# Altium footprint library Intercom Gen2 Main PCB.PcbLib: 115 footprints (part 3 of 8)
Each footprint in its own frame and in the unit in brackets; x right, y up, seen from the top. Pads: shape width x height; smd on the part's side, far side on the other; paste and mask are expansions set on the pad; w line width, h text height; cw(c..) or ccw(c..) is an arc to the next point about the centre after c.
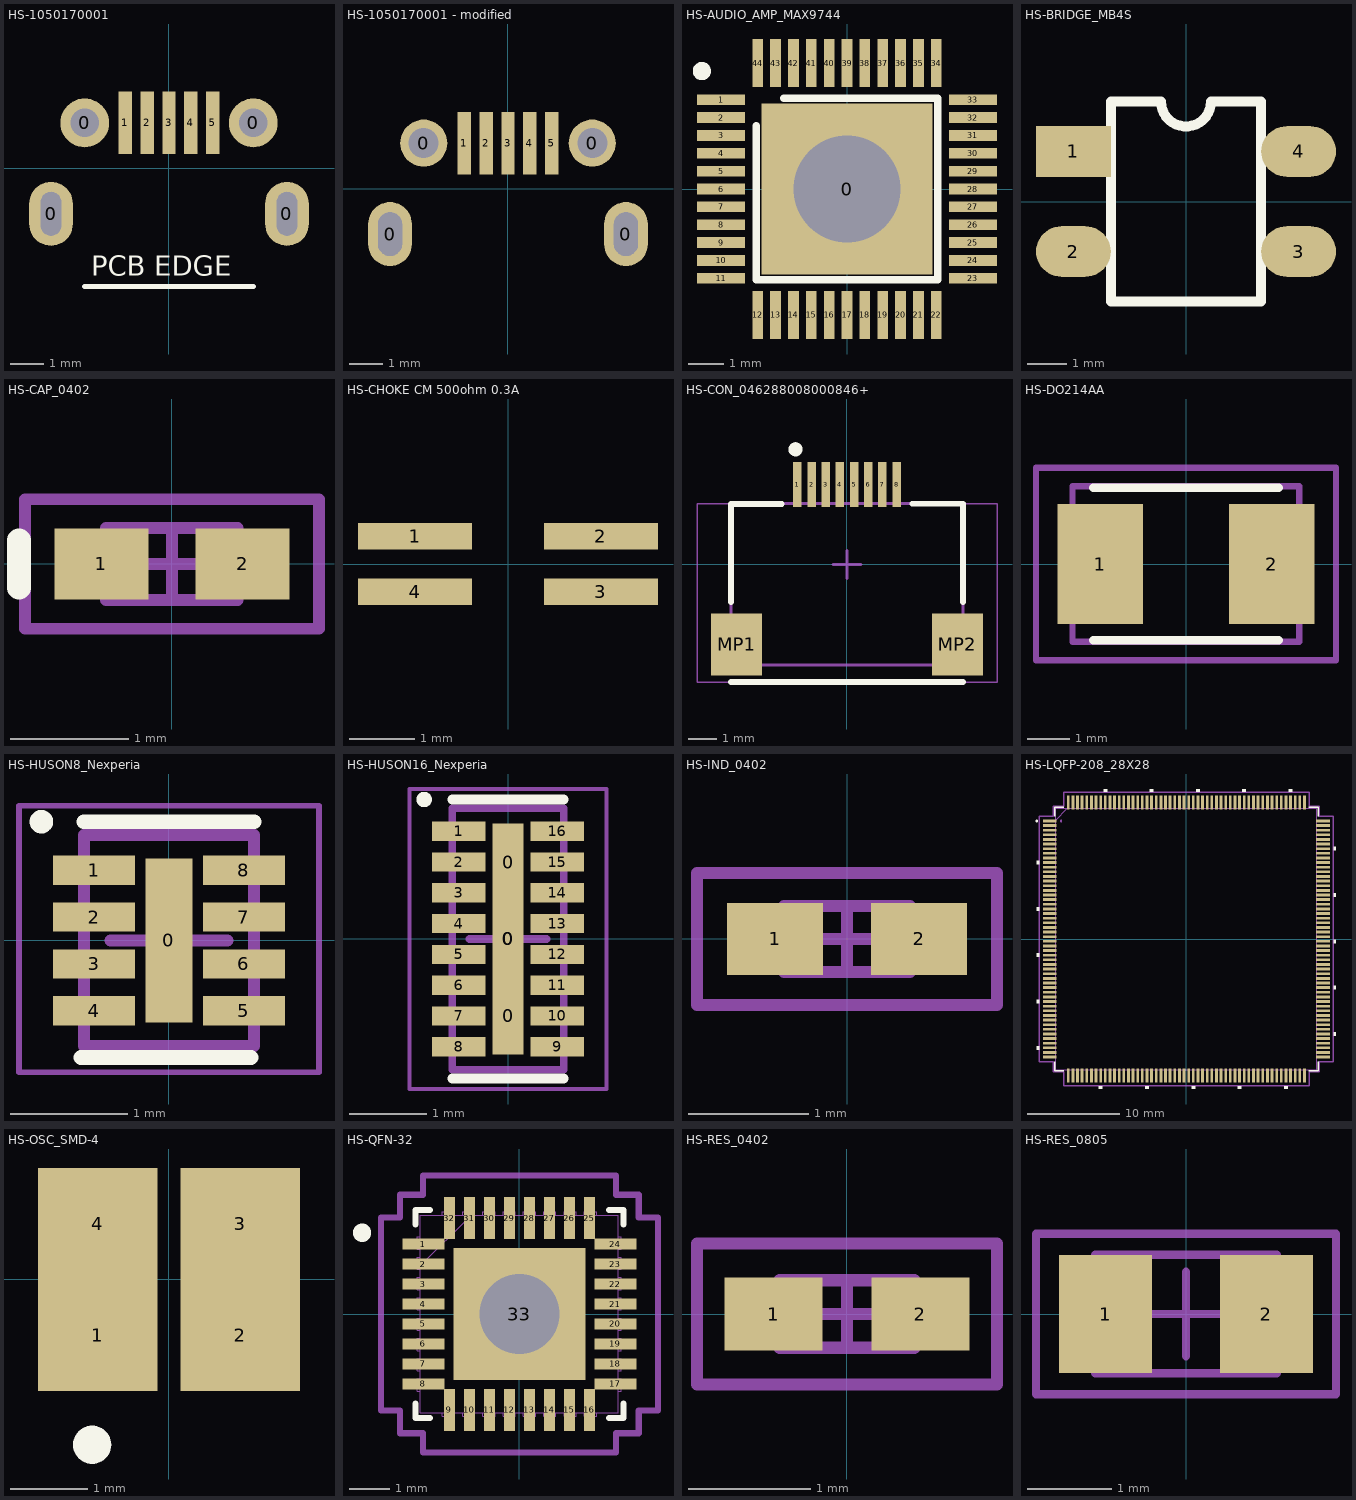
[diagram p2: the footprints below, top view; thin cyan lines are the x and y axes]

## HS-1050170001 [mm] "USB microB 5-Position, SMD, Right Angle"
pads (9):
  oval 1.3x1.9 hole 0.6 slot 1.3 at 90 deg: 0(-3.5,-1.35) 0(3.5,-1.35)
  round 1.45 hole 0.85: 0(-2.5,1.35) 0(2.5,1.35)
  rect 0.4x1.85 smd paste-0.05: 1(-1.3,1.35) 2(-0.65,1.35) 3(0,1.35) 4(0.65,1.35) 5(1.3,1.35)
Top Overlay:
  lines w0.15: -2.5,-3.5 2.5,-3.5
  text "PCB EDGE" at -2.31,-3.19 h0.6
3D body "1050170001.SLDPRT": height 2.7, standoff -0.6, extent -4.1,-3.9 4.1,1.5

## HS-1050170001 - modified [mm] "USB microB 5-Position, SMD, Right Angle"
pads (9):
  oval 1.3x1.9 hole 0.711 slot 1.3 at 90 deg: 0(-3.5,-1.35) 0(3.5,-1.35)
  round 1.397 hole 0.889: 0(-2.5,1.35) 0(2.5,1.35)
  rect 0.4x1.85 smd paste-0.05: 1(-1.3,1.35) 2(-0.65,1.35) 3(0,1.35) 4(0.65,1.35) 5(1.3,1.35)
3D body "1050170001.SLDPRT": height 2.7, standoff -0.6, extent -4.1,-3.9 4.1,1.5

## HS-AUDIO_AMP_MAX9744 [mm]
height 2.54
pads (45):
  rect 4.78x4.78 hole 3: 0(0,0)
  rect 1.35x0.3 smd: 1(-3.525,2.5) 2(-3.525,2) 3(-3.525,1.5) 4(-3.525,1) 5(-3.525,0.5) 6(-3.525,0) 7(-3.525,-0.5) 8(-3.525,-1) 9(-3.525,-1.5) 10(-3.525,-2) 11(-3.525,-2.5) 23(3.525,-2.5) 24(3.525,-2) 25(3.525,-1.5) 26(3.525,-1) 27(3.525,-0.5) 28(3.525,0) 29(3.525,0.5) 30(3.525,1) 31(3.525,1.5) 32(3.525,2) 33(3.525,2.5)
  rect 0.3x1.35 smd: 12(-2.5,-3.525) 13(-2,-3.525) 14(-1.5,-3.525) 15(-1,-3.525) 16(-0.5,-3.525) 17(0,-3.525) 18(0.5,-3.525) 19(1,-3.525) 20(1.5,-3.525) 21(2,-3.525) 22(2.5,-3.525) 34(2.5,3.525) 35(2,3.525) 36(1.5,3.525) 37(1,3.525) 38(0.5,3.525) 39(0,3.525) 40(-0.5,3.525) 41(-1,3.525) 42(-1.5,3.525) 43(-2,3.525) 44(-2.5,3.525)
Top Overlay:
  circle w0.254: c-4.064,3.302 r0.127
  lines w0.2: -2.54,1.778 -2.54,-2.54 2.54,-2.54 2.54,2.54 -1.778,2.54
3D body "User Library-QFN 44.step": height 0.86, standoff 0.01, extent -3.501,-3.501 3.501,3.501

## HS-BRIDGE_MB4S [mil] "BRIDGE_MB4S"
height 100
pads (4):
  rect 74.69x50.67 smd: 1(-112.5,50)
  oval 74.69x50.67 smd: 2(-112.5,-50) 3(112.5,-50) 4(112.5,50)
Top Overlay:
  lines w10: -75,-100 -75,100 -25,100 ccw(c0,100) 25,100 75,100 75,-100 -75,-100
3D body "MB4S.STEP": height 114.17, standoff 0, extent -131.89,-93.01 131.89,93.01

## HS-CAP_0402 [mm]
height 0.64
pads (2):
  rect 0.8x0.6 smd: 1(-0.6,0) 2(0.6,0)
Top Overlay:
  lines w0.2: -1.3,-0.2 -1.3,0.2
Mechanical 13:
  lines w0.1: -0.56,-0.305 -0.56,0.305 0.56,0.305 0.56,-0.305 -0.56,-0.305
Mechanical 15:
  lines w0.1: -0.305,0 0.305,0 ; 0,-0.305 0,0.305 ; -1.25,-0.55 -1.25,0.55 1.25,0.55 1.25,-0.55 -1.25,-0.55
3D body: height 0.64, standoff 0, extent -0.56,-0.305 0.56,0.305

## HS-CHOKE CM 500ohm 0.3A [mm]
pads (4):
  rect 1.75x0.4 smd paste-0.03: 1(-1.425,0.425) 2(1.425,0.425) 3(1.425,-0.425) 4(-1.425,-0.425)
3D body: height 1.4, standoff 0, extent -1.1,-0.7 1.1,0.7

## HS-CON_046288008000846+ [mm] "Kyocera ZIF, 0.5mm, 8 contacts, bottom"
height 2
pads (10):
  rect 0.3x1.6 smd: 1(-1.75,2.825) 2(-1.25,2.825) 3(-0.75,2.825) 4(-0.25,2.825) 5(0.25,2.825) 6(0.75,2.825) 7(1.25,2.825) 8(1.75,2.825)
  rect 1.8x2.2 smd: MP1(-3.9,-2.825) MP2(3.9,-2.825)
Top Overlay:
  circle w0.25: c-1.82,4.07 r0.125
  lines w0.2: -4.1,-4.15 4.1,-4.15 ; -4.1,-1.325 -4.1,2.14 -2.3,2.14 ; 2.3,2.15 4.1,2.15 4.1,-1.325
Mechanical 13:
  lines w0.1: -4.1,-3.55 4.1,-3.55 4.1,2.15 -4.1,2.15 -4.1,-3.55
Mechanical 15:
  lines w0.05: -5.3,-4.16 -5.3,2.15 5.3,2.15 5.3,-4.16 -5.3,-4.16
  lines w0.1: -0.5,0 0.5,0 ; 0,-0.5 0,0.5
3D body: height 2, standoff 0, extent -4.1,-3.55 4.1,2.15

## HS-DO214AA [mm] "DO214AA"
height 2.65
pads (2):
  rect 2x2.8 smd: 1(-2,0) 2(2,0)
Top Overlay:
  lines w0.203: -2.16,-1.78 2.16,-1.78 ; -2.16,1.78 2.16,1.78
Mechanical 13:
  lines w0.15: -2.648,-1.81 2.647,-1.81 2.647,1.81 -2.648,1.81 -2.648,-1.81
Mechanical 15:
  lines w0.15: -3.5,-2.25 -3.5,2.25 3.5,2.25 3.5,-2.25 -3.5,-2.25
3D body "SMB.step": height 2.51, standoff 0.01, extent -2.648,-1.81 2.647,1.81

## HS-HUSON8_Nexperia [mm] "SON, 8-Leads, Body 1.70x1.35mmx0.55, Pitch 0.40mm, Thermal Pad 1.40x0.4mm, IPC Medium Density"
height 0.55
pads (9):
  rect 0.4x1.4 smd paste-100: 0(0,0)
  rect 0.7x0.25 smd: 1(-0.64,0.6) 2(-0.64,0.2) 3(-0.64,-0.2) 4(-0.64,-0.6) 5(0.64,-0.6) 6(0.64,-0.2) 7(0.64,0.2) 8(0.64,0.6)
Top Overlay:
  circle w0.1: c-1.088,1.014 r0.05
  lines w0.127: -0.75,-1 0.7,-1 ; -0.725,1.014 0.725,1.014
Top Paste:
  rectangle: -0.15,-0.25 0.15,0.25
Mechanical 13:
  lines w0.1: -0.725,-0.9 -0.725,0.9 0.725,0.9 0.725,-0.9 -0.725,-0.9
Mechanical 15:
  lines w0.05: -1.28,-1.125 -1.28,1.15 1.28,1.15 1.28,-1.125 -1.28,-1.125
  lines w0.1: -0.5,0 0.5,0 ; 0,-0.5 0,0.5
3D body "QFN8_SOT1166-1_NEX.step": height 0.56, standoff 0, extent -0.724,-0.902 0.724,0.902

## HS-HUSON16_Nexperia [mm] "SON, 16-Leads, Body 3.30x1.35mmx0.55, Pitch 0.40mm, Thermal Pad 2.80x0.4mm, IPC Medium Density"
height 0.55
pads (20):
  rect 0.3x0.35 smd mask-100: 0(0,-1) 0(0,0) 0(0,1)
  rect 0.4x3 smd paste-100: 0(0,0)
  rect 0.7x0.25 smd: 1(-0.64,1.4) 2(-0.64,1) 3(-0.64,0.6) 4(-0.64,0.2) 5(-0.64,-0.2) 6(-0.64,-0.6) 7(-0.64,-1) 8(-0.64,-1.4) 9(0.64,-1.4) 10(0.64,-1) 11(0.64,-0.6) 12(0.64,-0.2) 13(0.64,0.2) 14(0.64,0.6) 15(0.64,1) 16(0.64,1.4)
Top Overlay:
  circle w0.1: c-1.089,1.813 r0.05
  lines w0.127: -0.725,-1.813 0.725,-1.813 ; -0.725,1.813 0.725,1.813
Mechanical 13:
  lines w0.1: -0.725,-1.7 -0.725,1.7 0.725,1.7 0.725,-1.7 -0.725,-1.7
Mechanical 15:
  lines w0.05: -1.28,-1.95 -1.28,1.95 1.28,1.95 1.28,-1.95 -1.28,-1.95
  lines w0.1: -0.5,0 0.5,0 ; 0,-0.5 0,0.5
3D body "HSON16_Nexperia.step": height 0.55, standoff 0, extent -0.775,-1.7 0.775,1.7

## HS-IND_0402 [mm]
height 0.55
pads (2):
  rect 0.8x0.6 smd: 1(-0.6,0) 2(0.6,0)
Mechanical 13:
  lines w0.1: -0.525,-0.275 -0.525,0.275 0.525,0.275 0.525,-0.275 -0.525,-0.275
Mechanical 15:
  lines w0.1: -0.275,0 0.275,0 ; 0,-0.275 0,0.275 ; -1.25,-0.55 -1.25,0.55 1.25,0.55 1.25,-0.55 -1.25,-0.55
3D body: height 0.55, standoff 0, extent -0.525,-0.275 0.525,0.275

## HS-LQFP-208_28X28 [mm]
pads (208):
  rect 1.5x0.3 smd: 1(-14.75,12.75) 2(-14.75,12.25) 3(-14.75,11.75) 4(-14.75,11.25) 5(-14.75,10.75) 6(-14.75,10.25) 7(-14.75,9.75) 8(-14.75,9.25) 9(-14.75,8.75) 10(-14.75,8.25) 11(-14.75,7.75) 12(-14.75,7.25) 13(-14.75,6.75) 14(-14.75,6.25) 15(-14.75,5.75) 16(-14.75,5.25) 17(-14.75,4.75) 18(-14.75,4.25) 19(-14.75,3.75) 20(-14.75,3.25) 21(-14.75,2.75) 22(-14.75,2.25) 23(-14.75,1.75) 24(-14.75,1.25) 25(-14.75,0.75) 26(-14.75,0.25) 27(-14.75,-0.25) 28(-14.75,-0.75) 29(-14.75,-1.25) 30(-14.75,-1.75) 31(-14.75,-2.25) 32(-14.75,-2.75) 33(-14.75,-3.25) 34(-14.75,-3.75) 35(-14.75,-4.25) 36(-14.75,-4.75) 37(-14.75,-5.25) 38(-14.75,-5.75) 39(-14.75,-6.25) 40(-14.75,-6.75) 41(-14.75,-7.25) 42(-14.75,-7.75) 43(-14.75,-8.25) 44(-14.75,-8.75) 45(-14.75,-9.25) 46(-14.75,-9.75) 47(-14.75,-10.25) 48(-14.75,-10.75) 49(-14.75,-11.25) 50(-14.75,-11.75) 51(-14.75,-12.25) 52(-14.75,-12.75) 105(14.75,-12.75) 106(14.75,-12.25) 107(14.75,-11.75) 108(14.75,-11.25) 109(14.75,-10.75) 110(14.75,-10.25) 111(14.75,-9.75) 112(14.75,-9.25) 113(14.75,-8.75) 114(14.75,-8.25) 115(14.75,-7.75) 116(14.75,-7.25) 117(14.75,-6.75) 118(14.75,-6.25) 119(14.75,-5.75) 120(14.75,-5.25) 121(14.75,-4.75) 122(14.75,-4.25) 123(14.75,-3.75) 124(14.75,-3.25) 125(14.75,-2.75) 126(14.75,-2.25) 127(14.75,-1.75) 128(14.75,-1.25) 129(14.75,-0.75) 130(14.75,-0.25) 131(14.75,0.25) 132(14.75,0.75) 133(14.75,1.25) 134(14.75,1.75) 135(14.75,2.25) 136(14.75,2.75) 137(14.75,3.25) 138(14.75,3.75) 139(14.75,4.25) 140(14.75,4.75) 141(14.75,5.25) 142(14.75,5.75) 143(14.75,6.25) 144(14.75,6.75) 145(14.75,7.25) 146(14.75,7.75) 147(14.75,8.25) 148(14.75,8.75) 149(14.75,9.25) 150(14.75,9.75) 151(14.75,10.25) 152(14.75,10.75) 153(14.75,11.25) 154(14.75,11.75) 155(14.75,12.25) 156(14.75,12.75)
  rect 0.3x1.5 smd: 53(-12.75,-14.75) 54(-12.25,-14.75) 55(-11.75,-14.75) 56(-11.25,-14.75) 57(-10.75,-14.75) 58(-10.25,-14.75) 59(-9.75,-14.75) 60(-9.25,-14.75) 61(-8.75,-14.75) 62(-8.25,-14.75) 63(-7.75,-14.75) 64(-7.25,-14.75) 65(-6.75,-14.75) 66(-6.25,-14.75) 67(-5.75,-14.75) 68(-5.25,-14.75) 69(-4.75,-14.75) 70(-4.25,-14.75) 71(-3.75,-14.75) 72(-3.25,-14.75) 73(-2.75,-14.75) 74(-2.25,-14.75) 75(-1.75,-14.75) 76(-1.25,-14.75) 77(-0.75,-14.75) 78(-0.25,-14.75) 79(0.25,-14.75) 80(0.75,-14.75) 81(1.25,-14.75) 82(1.75,-14.75) 83(2.25,-14.75) 84(2.75,-14.75) 85(3.25,-14.75) 86(3.75,-14.75) 87(4.25,-14.75) 88(4.75,-14.75) 89(5.25,-14.75) 90(5.75,-14.75) 91(6.25,-14.75) 92(6.75,-14.75) 93(7.25,-14.75) 94(7.75,-14.75) 95(8.25,-14.75) 96(8.75,-14.75) 97(9.25,-14.75) 98(9.75,-14.75) 99(10.25,-14.75) 100(10.75,-14.75) 101(11.25,-14.75) 102(11.75,-14.75) 103(12.25,-14.75) 104(12.75,-14.75) 157(12.75,14.75) 158(12.25,14.75) 159(11.75,14.75) 160(11.25,14.75) 161(10.75,14.75) 162(10.25,14.75) 163(9.75,14.75) 164(9.25,14.75) 165(8.75,14.75) 166(8.25,14.75) 167(7.75,14.75) 168(7.25,14.75) 169(6.75,14.75) 170(6.25,14.75) 171(5.75,14.75) 172(5.25,14.75) 173(4.75,14.75) 174(4.25,14.75) 175(3.75,14.75) 176(3.25,14.75) 177(2.75,14.75) 178(2.25,14.75) 179(1.75,14.75) 180(1.25,14.75) 181(0.75,14.75) 182(0.25,14.75) 183(-0.25,14.75) 184(-0.75,14.75) 185(-1.25,14.75) 186(-1.75,14.75) 187(-2.25,14.75) 188(-2.75,14.75) 189(-3.25,14.75) 190(-3.75,14.75) 191(-4.25,14.75) 192(-4.75,14.75) 193(-5.25,14.75) 194(-5.75,14.75) 195(-6.25,14.75) 196(-6.75,14.75) 197(-7.25,14.75) 198(-7.75,14.75) 199(-8.25,14.75) 200(-8.75,14.75) 201(-9.25,14.75) 202(-9.75,14.75) 203(-10.25,14.75) 204(-10.75,14.75) 205(-11.25,14.75) 206(-11.75,14.75) 207(-12.25,14.75) 208(-12.75,14.75)
Top Overlay:
  circle w0.152: c-16.154,12.75 r0.076
  region: 10.941,-15.904 10.56,-15.904 10.56,-16.158 10.941,-16.158
  region: 5.941,-15.904 5.56,-15.904 5.56,-16.158 5.941,-16.158
  region: 0.941,-15.904 0.56,-15.904 0.56,-16.158 0.941,-16.158
  region: -4.059,-15.904 -4.44,-15.904 -4.44,-16.158 -4.059,-16.158
  region: -9.059,-15.904 -9.44,-15.904 -9.44,-16.158 -9.059,-16.158
  region: -15.904,-11.559 -16.158,-11.559 -16.158,-11.94 -15.904,-11.94
  region: -15.904,-6.559 -16.158,-6.559 -16.158,-6.94 -15.904,-6.94
  region: -15.904,-1.559 -16.158,-1.559 -16.158,-1.94 -15.904,-1.94
  region: -15.904,3.441 -16.158,3.441 -16.158,3.06 -15.904,3.06
  region: -15.904,8.441 -16.158,8.441 -16.158,8.06 -15.904,8.06
  region: 6.441,15.904 6.06,15.904 6.06,16.158 6.441,16.158
  region: 11.441,15.904 11.06,15.904 11.06,16.158 11.441,16.158
  region: 1.441,15.904 1.06,15.904 1.06,16.158 1.441,16.158
  region: -3.56,15.904 -3.941,15.904 -3.941,16.158 -3.56,16.158
  region: -8.56,15.904 -8.941,15.904 -8.941,16.158 -8.56,16.158
  region: 15.904,-10.059 16.158,-10.059 16.158,-10.44 15.904,-10.44
  region: 15.904,9.941 16.158,9.941 16.158,9.56 15.904,9.56
  region: 15.904,4.941 16.158,4.941 16.158,4.56 15.904,4.56
  region: 15.904,-0.059 16.158,-0.059 16.158,-0.44 15.904,-0.44
  region: 15.904,-5.059 16.158,-5.059 16.158,-5.44 15.904,-5.44
  lines w0.152: -14.227,-13.233 -14.227,-14.227 -13.233,-14.227 ; -14.227,13.233 -14.227,14.227 -13.233,14.227 ; 13.233,-14.227 14.227,-14.227 14.227,-13.233 ; 13.233,14.227 14.227,14.227 14.227,13.233
Mechanical 13:
  circle w0: c-13.515,12.75 r0.076
  lines w0.025: -14.1,12.83 -12.83,14.1 ; -14.1,-14.1 -14.1,14.1 14.1,14.1 14.1,-14.1 -14.1,-14.1
Mechanical 15:
  lines w0.152: -15.858,-13.258 -15.858,13.258 -14.354,13.258 -14.354,14.354 -13.258,14.354 -13.258,15.858 13.258,15.858 13.258,14.354 14.354,14.354 14.354,13.258 15.858,13.258 15.858,-13.258 14.354,-13.258 14.354,-14.354 13.258,-14.354 13.258,-15.858 -13.258,-15.858 -13.258,-14.354 -14.354,-14.354 -14.354,-13.258 -15.858,-13.258
3D body "STM32F746BGT6--3DModel-STEP-56544.STEP": height 1.6, standoff 0, extent -15,-15 15,15

## HS-OSC_SMD-4 [mm] "HS version of Kyocera KC2520B-C1 Series"
height 0.7
pads (5):
  rect 1.55x1.45 smd paste-0.1: 1(-0.925,-0.725) 2(0.925,-0.725) 3(0.925,0.725) 4(-0.925,0.725)
  round 0.5 on Top Overlay: ""(-1,-2.15)
3D body "User Library-VCXO 2_5x2_0.STEP": height 0.7, standoff -0.01, extent -1.25,-1 1.25,1

## HS-QFN-32 [mm] "32-QFN, 5.0x5.0x1mm body, 0.5mm pitch, 3.3x3.3mm ePAD"
height 1
pads (33):
  rect 1.05x0.28 smd paste-0.025 mask+0.05: 1(-2.4,1.75) 2(-2.4,1.25) 3(-2.4,0.75) 4(-2.4,0.25) 5(-2.4,-0.25) 6(-2.4,-0.75) 7(-2.4,-1.25) 8(-2.4,-1.75) 17(2.4,-1.75) 18(2.4,-1.25) 19(2.4,-0.75) 20(2.4,-0.25) 21(2.4,0.25) 22(2.4,0.75) 23(2.4,1.25) 24(2.4,1.75)
  rect 0.28x1.05 smd paste-0.025 mask+0.05: 9(-1.75,-2.4) 10(-1.25,-2.4) 11(-0.75,-2.4) 12(-0.25,-2.4) 13(0.25,-2.4) 14(0.75,-2.4) 15(1.25,-2.4) 16(1.75,-2.4) 25(1.75,2.4) 26(1.25,2.4) 27(0.75,2.4) 28(0.25,2.4) 29(-0.25,2.4) 30(-0.75,2.4) 31(-1.25,2.4) 32(-1.75,2.4)
  rect 3.3x3.3 hole 2: 33(0,0)
Top Overlay:
  circle w0.254: c-3.937,2.032 r0.102
  lines w0.152: -2.603,-2.238 -2.603,-2.603 -2.238,-2.603 ; -2.603,2.238 -2.603,2.603 -2.238,2.603 ; 2.238,-2.603 2.603,-2.603 2.603,-2.238 ; 2.238,2.603 2.603,2.603 2.603,2.238
Mechanical 13:
  lines w0.025: -2.476,1.206 -1.206,2.476 ; -2.553,-1.93 -2.476,-1.93 -2.476,-1.626 -2.553,-1.626 -2.553,-1.93 ; -2.553,-1.422 -2.476,-1.422 -2.476,-1.118 -2.553,-1.118 -2.553,-1.422 ; -2.553,-0.914 -2.476,-0.914 -2.476,-0.61 -2.553,-0.61 -2.553,-0.914 ; -2.553,-0.406 -2.476,-0.406 -2.476,-0.102 -2.553,-0.102 -2.553,-0.406 ; -2.553,0.102 -2.476,0.102 -2.476,0.406 -2.553,0.406 -2.553,0.102 ; -2.553,0.61 -2.476,0.61 -2.476,0.914 -2.553,0.914 -2.553,0.61 ; -2.553,1.118 -2.476,1.118 -2.476,1.422 -2.553,1.422 -2.553,1.118 ; -2.553,1.626 -2.476,1.626 -2.476,1.93 -2.553,1.93 -2.553,1.626 ; -2.476,-2.476 -2.476,2.476 2.476,2.476 2.476,-2.476 -2.476,-2.476 ; -1.93,-2.553 -1.626,-2.553 -1.626,-2.476 -1.93,-2.476 -1.93,-2.553 ; -1.93,2.476 -1.93,2.553 -1.626,2.553 -1.626,2.476 -1.93,2.476 ; -1.422,-2.553 -1.118,-2.553 -1.118,-2.476 -1.422,-2.476 -1.422,-2.553 ; -1.422,2.476 -1.422,2.553 -1.118,2.553 -1.118,2.476 -1.422,2.476 ; -0.914,-2.553 -0.61,-2.553 -0.61,-2.476 -0.914,-2.476 -0.914,-2.553 ; -0.914,2.476 -0.914,2.553 -0.61,2.553 -0.61,2.476 -0.914,2.476 ; -0.406,-2.553 -0.102,-2.553 -0.102,-2.476 -0.406,-2.476 -0.406,-2.553 ; -0.406,2.476 -0.406,2.553 -0.102,2.553 -0.102,2.476 -0.406,2.476 ; 0.102,-2.553 0.406,-2.553 0.406,-2.476 0.102,-2.476 0.102,-2.553 ; 0.102,2.476 0.102,2.553 0.406,2.553 0.406,2.476 0.102,2.476 ; 0.61,-2.553 0.914,-2.553 0.914,-2.476 0.61,-2.476 0.61,-2.553 ; 0.61,2.476 0.61,2.553 0.914,2.553 0.914,2.476 0.61,2.476 ; 1.118,-2.553 1.422,-2.553 1.422,-2.476 1.118,-2.476 1.118,-2.553 ; 1.118,2.476 1.118,2.553 1.422,2.553 1.422,2.476 1.118,2.476 ; 1.626,-2.553 1.93,-2.553 1.93,-2.476 1.626,-2.476 1.626,-2.553 ; 1.626,2.476 1.626,2.553 1.93,2.553 1.93,2.476 1.626,2.476 ; 2.476,-1.93 2.553,-1.93 2.553,-1.626 2.476,-1.626 2.476,-1.93 ; 2.476,-1.422 2.553,-1.422 2.553,-1.118 2.476,-1.118 2.476,-1.422 ; 2.476,-0.914 2.553,-0.914 2.553,-0.61 2.476,-0.61 2.476,-0.914 ; 2.476,-0.406 2.553,-0.406 2.553,-0.102 2.476,-0.102 2.476,-0.406 ; 2.476,0.102 2.553,0.102 2.553,0.406 2.476,0.406 2.476,0.102 ; 2.476,0.61 2.553,0.61 2.553,0.914 2.476,0.914 2.476,0.61 ; 2.476,1.118 2.553,1.118 2.553,1.422 2.476,1.422 2.476,1.118 ; 2.476,1.626 2.553,1.626 2.553,1.93 2.476,1.93 2.476,1.626
Mechanical 15:
  lines w0.152: -3.467,-2.413 -3.467,2.413 -2.984,2.413 -2.984,2.984 -2.413,2.984 -2.413,3.467 2.413,3.467 2.413,2.984 2.984,2.984 2.984,2.413 3.467,2.413 3.467,-2.413 2.984,-2.413 2.984,-2.984 2.413,-2.984 2.413,-3.467 -2.413,-3.467 -2.413,-2.984 -2.984,-2.984 -2.984,-2.413 -3.467,-2.413
3D body "QFN32_5X5MC_MCH.step": height 1.4, standoff 0, extent -2.553,-2.553 2.553,2.553

## HS-RES_0402 [mm]
height 0.35
pads (2):
  rect 0.8x0.6 smd: 1(-0.6,0) 2(0.6,0)
Mechanical 13:
  lines w0.1: -0.55,-0.275 0.55,-0.275 0.55,0.275 -0.55,0.275 -0.55,-0.275
Mechanical 15:
  lines w0.1: -0.275,0 0.275,0 ; 0,-0.275 0,0.275 ; -1.225,-0.575 1.225,-0.575 1.225,0.575 -1.225,0.575 -1.225,-0.575
3D body: height 0.35, standoff 0, extent -0.55,-0.275 0.55,0.275

## HS-RES_0805 [mm]
height 0.6
pads (2):
  rect 1.1x1.4 smd: 1(-0.95,0) 2(0.95,0)
Mechanical 13:
  lines w0.1: -1.075,-0.7 1.075,-0.7 1.075,0.7 -1.075,0.7 -1.075,-0.7
Mechanical 15:
  lines w0.1: -0.5,0 0.5,0 ; 0,-0.5 0,0.5 ; -1.775,-0.95 1.775,-0.95 1.775,0.95 -1.775,0.95 -1.775,-0.95
3D body: height 0.6, standoff 0, extent -1.075,-0.7 1.075,0.7